# EAGLE library part ACTGLOBAL_ANALOG-TESTER (library act-global-nolan)
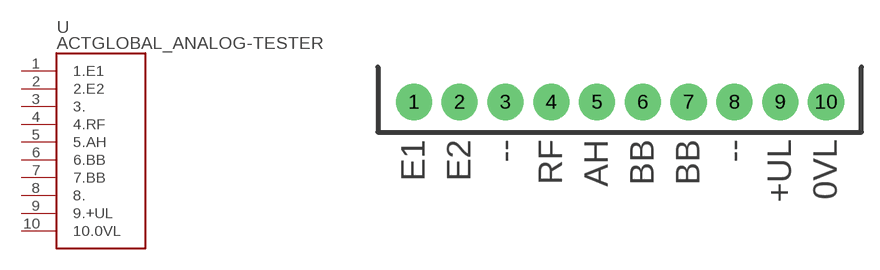
[diagram p22: symbol with the pads of ACTGLOBAL_ANALOGTESTER; footprint ACTGLOBAL_ANALOGTESTER]

Designator prefix -

## ACTGLOBAL_ANALOG-TESTER  [ACTGLOBAL_ANALOGTESTER]
1  1.E1
2  2.E2
3  3.
4  4.RF
5  5.AH
6  6.BB
7  7.BB
8  8.
9  9.+UL
10  10.0VL

## Footprint ACTGLOBAL_ANALOGTESTER (pad centres in mm)
drill 2: 1 0,0; 2 3.81,0; 3 7.62,0; 4 11.43,0; 5 15.24,0; 6 19.05,0; 7 22.86,0; 8 26.67,0; 9 30.48,0; 10 34.29,0